# Altium schematic symbol library Cap_AVX_06033A161JAT2A_160pF.SchLib: 1 symbol
Pins are listed as number, name and electrical type; pins without a type are passive.

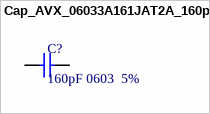
[diagram p0: symbol Cap_AVX_06033A161JAT2A_160pF]

## Cap_AVX_06033A161JAT2A_160pF
designator C?, comment 160pF 0603  5%
Multilayer Ceramic Capacitors MLCC - SMD/SMT 25V 160pF C0G 0603 5% Tol; Supplier 1: Mouser; Supplier Part Number 1: 581-06033A161JAT2A
pins: 1, 2